# EAGLE library part ESP32-WROOM (library MCE_Microcontroladores)
ESP32-WROOM
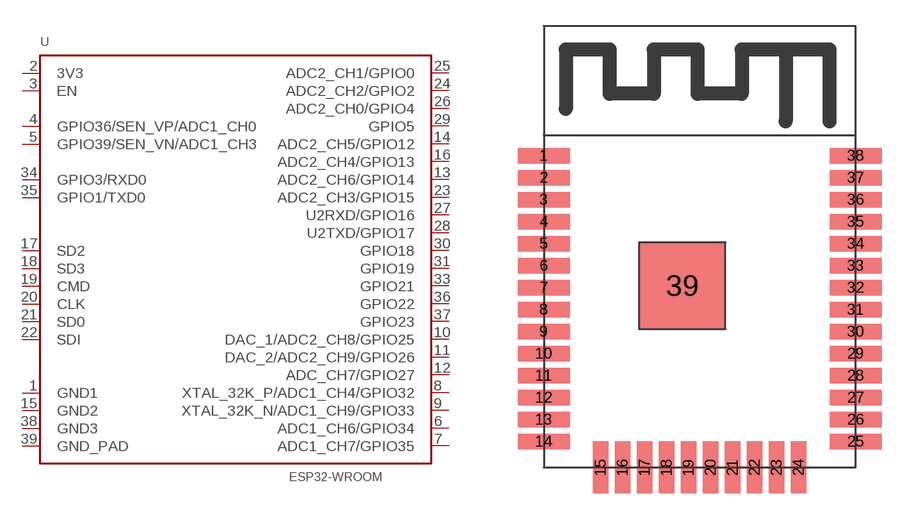
[diagram p9: symbol with the pads of ESP32-WROOM; footprint ESP32-WROOM]

Designator prefix U

## ESP32-WROOM  [ESP32-WROOM]
1  GND1
2  3V3
3  EN
4  GPIO36/SEN_VP/ADC1_CH0
5  GPIO39/SEN_VN/ADC1_CH3
6  ADC1_CH6/GPIO34
7  ADC1_CH7/GPIO35
8  XTAL_32K_P/ADC1_CH4/GPIO32
9  XTAL_32K_N/ADC1_CH9/GPIO33
10  DAC_1/ADC2_CH8/GPIO25
11  DAC_2/ADC2_CH9/GPIO26
12  ADC_CH7/GPIO27
13  ADC2_CH6/GPIO14
14  ADC2_CH5/GPIO12
15  GND2
16  ADC2_CH4/GPIO13
17  SD2
18  SD3
19  CMD
20  CLK
21  SD0
22  SDI
23  ADC2_CH3/GPIO15
24  ADC2_CH2/GPIO2
25  ADC2_CH1/GPIO0
26  ADC2_CH0/GPIO4
27  U2RXD/GPIO16
28  U2TXD/GPIO17
29  GPIO5
30  GPIO18
31  GPIO19
33  GPIO21
34  GPIO3/RXD0
35  GPIO1/TXD0
36  GPIO22
37  GPIO23
38  GND3
39  GND_PAD

## Footprint ESP32-WROOM (pad centres in mm)
smd 3 x 0.9: 1 -8.89,6.58; 2 -8.89,5.31; 3 -8.89,4.04; 4 -8.89,2.77; 5 -8.89,1.5; 6 -8.89,0.23; 7 -8.89,-1.04; 8 -8.89,-2.31; 9 -8.89,-3.58; 10 -8.89,-4.85; 11 -8.89,-6.12; 12 -8.89,-7.39; 13 -8.89,-8.66; 14 -8.89,-9.93; 25 9.11,-9.93; 26 9.11,-8.66; 27 9.11,-7.39; 28 9.11,-6.12; 29 9.11,-4.85; 30 9.11,-3.58; 31 9.11,-2.31; 32 9.11,-1.04; 33 9.11,0.23; 34 9.11,1.5; 35 9.11,2.77; 36 9.11,4.04; 37 9.11,5.31; 38 9.11,6.58
smd 0.9 x 3: 15 -5.605,-11.43; 16 -4.335,-11.43; 17 -3.065,-11.43; 18 -1.795,-11.43; 19 -0.525,-11.43; 20 0.745,-11.43; 21 2.015,-11.43; 22 3.285,-11.43; 23 4.555,-11.43; 24 5.825,-11.43
smd 5 x 5: 39 -0.89,-0.93